# Altium schematic symbol library jlcpcb_capacitors_basic.schlib: 134 symbols (part 2 of 3)
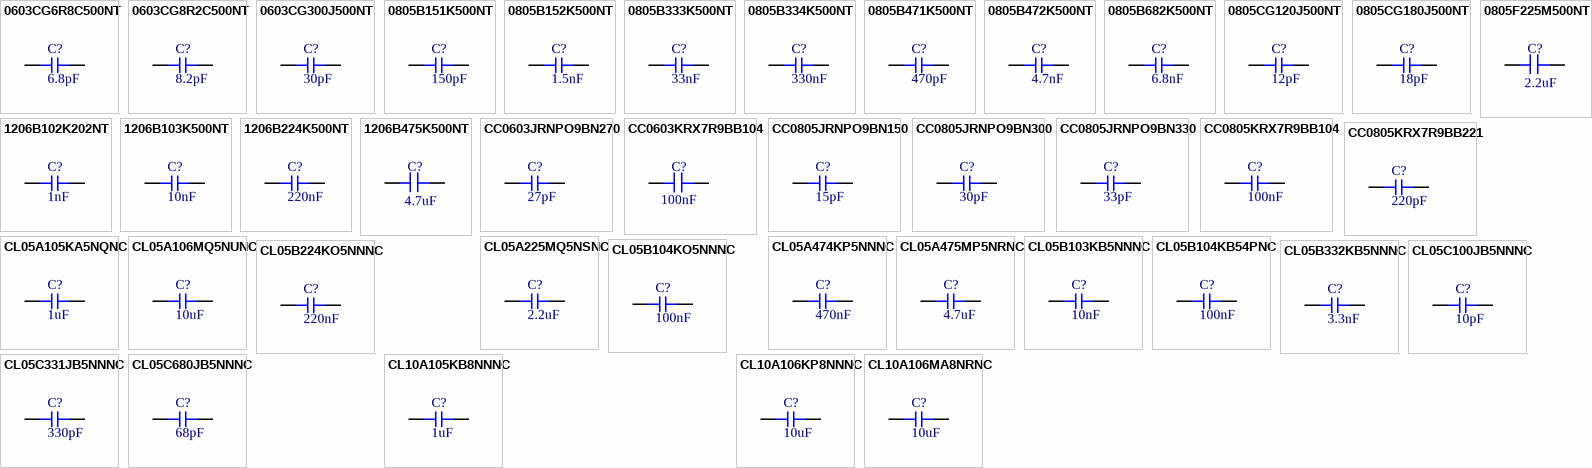
[diagram p4: symbols 0603CG6R8C500NT to CL10A106MA8NRNC]

## 0805B472K500NT
designator C?  Capacitance: 4.7nF  (hidden comment: *)
Capacitor, Ceramic (MLCC), 4.7nF, ±10%, 50V, X7R, ±10%, SMD 0805; Manufacturer: FH(Guangdong Fenghua Advanced Tech); Manufacturer Part Number: 0805B472K500NT; Package Size: 0805; JLCPCB Basic Part: Yes; JLCPCB Part Number: C1744; Supplier 1: LCSC; Category: Capacitors - MLCC; Supplier Part Number 1: C1744; Tolerance: ±10%; Voltage Rating: 50V; Temperature Coefficient: X7R; RoHS: Yes; ComponentLink1Description: Datasheet; ComponentLink1URL: https://datasheet.lcsc.com/lcsc/1811061719_FH--Guangdong-Fenghua-Advanced-Tech-0805B472K500NT_C1744.pdf; ComponentLink2Description: JLCPCB Part URL; ComponentLink2URL: https://jlcpcb.com/partdetail/C1744; ComponentLink3Description: LCSC Part URL; ComponentLink3URL: https://lcsc.com/product-detail/Multilayer-Ceramic-Capacitors-MLCC---SMD-SMT_FH-Guangdong-Fenghua-Advanced-Tech-FH-Guangdong-Fenghua-Advanced-Tech-0805B472K500NT_C1744.html
footprint CAP-0805 (0805 (2012M) Capacitor)
pins: 1, 2

## 0805B682K500NT
designator C?  Capacitance: 6.8nF  (hidden comment: *)
Capacitor, Ceramic (MLCC), 6.8nF, ±10%, 50V, X7R, ±10%, SMD 0805; Manufacturer: FH(Guangdong Fenghua Advanced Tech); Manufacturer Part Number: 0805B682K500NT; Package Size: 0805; JLCPCB Basic Part: Yes; JLCPCB Part Number: C1755; Supplier 1: LCSC; Category: Capacitors - MLCC; Supplier Part Number 1: C1755; Tolerance: ±10%; Voltage Rating: 50V; Temperature Coefficient: X7R; RoHS: Yes; ComponentLink1Description: Datasheet; ComponentLink1URL: https://datasheet.lcsc.com/lcsc/1811061724_FH--Guangdong-Fenghua-Advanced-Tech-0805B682K500NT_C1755.pdf; ComponentLink2Description: JLCPCB Part URL; ComponentLink2URL: https://jlcpcb.com/partdetail/C1755; ComponentLink3Description: LCSC Part URL; ComponentLink3URL: https://lcsc.com/product-detail/Multilayer-Ceramic-Capacitors-MLCC---SMD-SMT_FH-Guangdong-Fenghua-Advanced-Tech-FH-Guangdong-Fenghua-Advanced-Tech-0805B682K500NT_C1755.html
footprint CAP-0805 (0805 (2012M) Capacitor)
pins: 1, 2

## 0805CG120J500NT
designator C?  Capacitance: 12pF  (hidden comment: *)
Capacitor, Ceramic (MLCC), 12pF, ±5%, 50V, C0G, ±5%, SMD 0805; Manufacturer: FH(Guangdong Fenghua Advanced Tech); Manufacturer Part Number: 0805CG120J500NT; Package Size: 0805; JLCPCB Basic Part: Yes; JLCPCB Part Number: C1792; Supplier 1: LCSC; Category: Capacitors - MLCC; Supplier Part Number 1: C1792; Tolerance: ±5%; Voltage Rating: 50V; Temperature Coefficient: C0G; RoHS: Yes; ComponentLink1Description: Datasheet; ComponentLink1URL: https://datasheet.lcsc.com/lcsc/1811061723_FH--Guangdong-Fenghua-Advanced-Tech-0805CG120J500NT_C1792.pdf; ComponentLink2Description: JLCPCB Part URL; ComponentLink2URL: https://jlcpcb.com/partdetail/C1792; ComponentLink3Description: LCSC Part URL; ComponentLink3URL: https://lcsc.com/product-detail/Multilayer-Ceramic-Capacitors-MLCC---SMD-SMT_FH-Guangdong-Fenghua-Advanced-Tech-FH-Guangdong-Fenghua-Advanced-Tech-0805CG120J500NT_C1792.html
footprint CAP-0805 (0805 (2012M) Capacitor)
pins: 1, 2

## 0805CG180J500NT
designator C?  Capacitance: 18pF  (hidden comment: *)
Capacitor, Ceramic (MLCC), 18pF, ±5%, 50V, C0G, ±5%, SMD 0805; Manufacturer: FH(Guangdong Fenghua Advanced Tech); Manufacturer Part Number: 0805CG180J500NT; Package Size: 0805; JLCPCB Basic Part: Yes; JLCPCB Part Number: C1797; Supplier 1: LCSC; Category: Capacitors - MLCC; Supplier Part Number 1: C1797; Tolerance: ±5%; Voltage Rating: 50V; Temperature Coefficient: C0G; RoHS: Yes; ComponentLink1Description: Datasheet; ComponentLink1URL: https://datasheet.lcsc.com/lcsc/1811091217_FH--Guangdong-Fenghua-Advanced-Tech-0805CG180J500NT_C1797.pdf; ComponentLink2Description: JLCPCB Part URL; ComponentLink2URL: https://jlcpcb.com/partdetail/C1797; ComponentLink3Description: LCSC Part URL; ComponentLink3URL: https://lcsc.com/product-detail/Multilayer-Ceramic-Capacitors-MLCC---SMD-SMT_FH-Guangdong-Fenghua-Advanced-Tech-FH-Guangdong-Fenghua-Advanced-Tech-0805CG180J500NT_C1797.html
footprint CAP-0805 (0805 (2012M) Capacitor)
pins: 1, 2

## 0805F225M500NT
designator C?  Capacitance: 2.2uF  (hidden comment: *)
Capacitor, Ceramic (MLCC), 2.2uF, ±20%, 50V, Y5V, ±20%, SMD 0805; Manufacturer: FH(Guangdong Fenghua Advanced Tech); Manufacturer Part Number: 0805F225M500NT; Package Size: 0805; JLCPCB Basic Part: Yes; JLCPCB Part Number: C49217; Supplier 1: LCSC; Category: Capacitors - MLCC; Supplier Part Number 1: C49217; Tolerance: ±20%; Voltage Rating: 50V; Temperature Coefficient: Y5V; RoHS: Yes; ComponentLink1Description: Datasheet; ComponentLink1URL: https://datasheet.lcsc.com/lcsc/1811101411_FH--Guangdong-Fenghua-Advanced-Tech-0805F225M500NT_C49217.pdf; ComponentLink2Description: JLCPCB Part URL; ComponentLink2URL: https://jlcpcb.com/partdetail/C49217; ComponentLink3Description: LCSC Part URL; ComponentLink3URL: https://lcsc.com/product-detail/Multilayer-Ceramic-Capacitors-MLCC---SMD-SMT_FH-Guangdong-Fenghua-Advanced-Tech-FH-Guangdong-Fenghua-Advanced-Tech-0805F225M500NT_C49217.html
footprint C0805
pins: 1, 2

## 1206B102K202NT
designator C?  Capacitance: 1nF  (hidden comment: *)
Capacitor, Ceramic (MLCC), 1nF, ±10%, 2kV, X7R, ±10%, SMD 1206; Manufacturer: FH(Guangdong Fenghua Advanced Tech); Manufacturer Part Number: 1206B102K202NT; Package Size: 1206; JLCPCB Basic Part: Yes; JLCPCB Part Number: C9196; Supplier 1: LCSC; Category: Capacitors - MLCC; Supplier Part Number 1: C9196; Tolerance: ±10%; Voltage Rating: 2kV; Temperature Coefficient: X7R; RoHS: Yes; ComponentLink1Description: Datasheet; ComponentLink1URL: https://datasheet.lcsc.com/lcsc/1810311314_FH--Guangdong-Fenghua-Advanced-Tech-1206B102K202NT_C9196.pdf; ComponentLink2Description: JLCPCB Part URL; ComponentLink2URL: https://jlcpcb.com/partdetail/C9196; ComponentLink3Description: LCSC Part URL; ComponentLink3URL: https://lcsc.com/product-detail/Multilayer-Ceramic-Capacitors-MLCC---SMD-SMT_FH-Guangdong-Fenghua-Advanced-Tech-FH-Guangdong-Fenghua-Advanced-Tech-1206B102K202NT_C9196.html
footprint CAP-1206 (1206 (3216M) Capacitor)
pins: 1, 2

## 1206B103K500NT
designator C?  Capacitance: 10nF  (hidden comment: *)
Capacitor, Ceramic (MLCC), 10nF, ±10%, 50V, X7R, ±10%, SMD 1206; Manufacturer: FH(Guangdong Fenghua Advanced Tech); Manufacturer Part Number: 1206B103K500NT; Package Size: 1206; JLCPCB Basic Part: Yes; JLCPCB Part Number: C1846; Supplier 1: LCSC; Category: Capacitors - MLCC; Supplier Part Number 1: C1846; Tolerance: ±10%; Voltage Rating: 50V; Temperature Coefficient: X7R; RoHS: Yes; ComponentLink1Description: Datasheet; ComponentLink1URL: https://datasheet.lcsc.com/lcsc/1811051111_FH--Guangdong-Fenghua-Advanced-Tech-1206B103K500NT_C1846.pdf; ComponentLink2Description: JLCPCB Part URL; ComponentLink2URL: https://jlcpcb.com/partdetail/C1846; ComponentLink3Description: LCSC Part URL; ComponentLink3URL: https://lcsc.com/product-detail/Multilayer-Ceramic-Capacitors-MLCC---SMD-SMT_FH-Guangdong-Fenghua-Advanced-Tech-FH-Guangdong-Fenghua-Advanced-Tech-1206B103K500NT_C1846.html
footprint CAP-1206 (1206 (3216M) Capacitor)
pins: 1, 2

## 1206B224K500NT
designator C?  Capacitance: 220nF  (hidden comment: *)
Capacitor, Ceramic (MLCC), 220nF, ±10%, 50V, X7R, ±10%, SMD 1206; Manufacturer: FH(Guangdong Fenghua Advanced Tech); Manufacturer Part Number: 1206B224K500NT; Package Size: 1206; JLCPCB Basic Part: Yes; JLCPCB Part Number: C1857; Supplier 1: LCSC; Category: Capacitors - MLCC; Supplier Part Number 1: C1857; Tolerance: ±10%; Voltage Rating: 50V; Temperature Coefficient: X7R; RoHS: Yes; ComponentLink1Description: Datasheet; ComponentLink1URL: https://datasheet.lcsc.com/lcsc/1810311313_FH--Guangdong-Fenghua-Advanced-Tech-1206B224K500NT_C1857.pdf; ComponentLink2Description: JLCPCB Part URL; ComponentLink2URL: https://jlcpcb.com/partdetail/C1857; ComponentLink3Description: LCSC Part URL; ComponentLink3URL: https://lcsc.com/product-detail/Multilayer-Ceramic-Capacitors-MLCC---SMD-SMT_FH-Guangdong-Fenghua-Advanced-Tech-FH-Guangdong-Fenghua-Advanced-Tech-1206B224K500NT_C1857.html
footprint CAP-1206 (1206 (3216M) Capacitor)
pins: 1, 2

## 1206B475K500NT
designator C?  Capacitance: 4.7uF  (hidden comment: *)
Capacitor, Ceramic (MLCC), 4.7uF, ±10%, 50V, X7R, ±10%, SMD 1206; Manufacturer: FH(Guangdong Fenghua Advanced Tech); Manufacturer Part Number: 1206B475K500NT; Package Size: 1206; JLCPCB Basic Part: Yes; JLCPCB Part Number: C29823; Supplier 1: LCSC; Category: Capacitors - MLCC; Supplier Part Number 1: C29823; Tolerance: ±10%; Voltage Rating: 50V; Temperature Coefficient: X7R; RoHS: Yes; ComponentLink1Description: Datasheet; ComponentLink1URL: https://datasheet.lcsc.com/lcsc/1811091112_FH--Guangdong-Fenghua-Advanced-Tech-1206B475K500NT_C29823.pdf; ComponentLink2Description: JLCPCB Part URL; ComponentLink2URL: https://jlcpcb.com/partdetail/C29823; ComponentLink3Description: LCSC Part URL; ComponentLink3URL: https://lcsc.com/product-detail/Multilayer-Ceramic-Capacitors-MLCC---SMD-SMT_FH-Guangdong-Fenghua-Advanced-Tech-FH-Guangdong-Fenghua-Advanced-Tech-1206B475K500NT_C29823.html
footprint C1206
pins: 1, 2

## CC0603JRNPO9BN270
designator C?  Capacitance: 27pF  (hidden comment: *)
Capacitor, Ceramic (MLCC), 27pF, ±5%, 50V, NP0, ±5%, SMD 0603; Manufacturer: YAGEO; Manufacturer Part Number: CC0603JRNPO9BN270; Package Size: 0603; JLCPCB Basic Part: Yes; JLCPCB Part Number: C107045; Supplier 1: LCSC; Category: Capacitors - MLCC; Supplier Part Number 1: C107045; Tolerance: ±5%; Voltage Rating: 50V; Temperature Coefficient: NP0; RoHS: Yes; ComponentLink1Description: Datasheet; ComponentLink1URL: https://datasheet.lcsc.com/lcsc/1811082127_YAGEO-CC0603JRNPO9BN270_C107045.pdf; ComponentLink2Description: JLCPCB Part URL; ComponentLink2URL: https://jlcpcb.com/partdetail/C107045; ComponentLink3Description: LCSC Part URL; ComponentLink3URL: https://lcsc.com/product-detail/Multilayer-Ceramic-Capacitors-MLCC---SMD-SMT_YAGEO-YAGEO-CC0603JRNPO9BN270_C107045.html
footprint CAP-0603 (0603 (1608M) Capacitor)
pins: 1, 2

## CC0603KRX7R9BB104
designator C?  Capacitance: 100nF  (hidden comment: *)
Capacitor, Ceramic (MLCC), 100nF, ±10%, 50V, X7R, ±10%, SMD 0603; Manufacturer: YAGEO; Manufacturer Part Number: CC0603KRX7R9BB104; Package Size: 0603; JLCPCB Basic Part: Yes; JLCPCB Part Number: C14663; Supplier 1: LCSC; Category: Capacitors - MLCC; Supplier Part Number 1: C14663; Tolerance: ±10%; Voltage Rating: 50V; Temperature Coefficient: X7R; RoHS: Yes; ComponentLink1Description: Datasheet; ComponentLink1URL: https://datasheet.lcsc.com/lcsc/1809301912_YAGEO-CC0603KRX7R9BB104_C14663.pdf; ComponentLink2Description: JLCPCB Part URL; ComponentLink2URL: https://jlcpcb.com/partdetail/C14663; ComponentLink3Description: LCSC Part URL; ComponentLink3URL: https://lcsc.com/product-detail/Multilayer-Ceramic-Capacitors-MLCC---SMD-SMT_YAGEO-YAGEO-CC0603KRX7R9BB104_C14663.html
footprint C0603 (Chip Resistor, 2-Leads, Body 1.65x0.95mm, IPC Low Density)
pins: 1, 2

## CC0805JRNPO9BN150
designator C?  Capacitance: 15pF  (hidden comment: *)
Capacitor, Ceramic (MLCC), 15pF, ±5%, 50V, NP0, ±5%, SMD 0805; Manufacturer: YAGEO; Manufacturer Part Number: CC0805JRNPO9BN150; Package Size: 0805; JLCPCB Basic Part: Yes; JLCPCB Part Number: C107110; Supplier 1: LCSC; Category: Capacitors - MLCC; Supplier Part Number 1: C107110; Tolerance: ±5%; Voltage Rating: 50V; Temperature Coefficient: NP0; RoHS: Yes; ComponentLink1Description: Datasheet; ComponentLink1URL: https://datasheet.lcsc.com/lcsc/1810311412_YAGEO-CC0805JRNPO9BN150_C107110.pdf; ComponentLink2Description: JLCPCB Part URL; ComponentLink2URL: https://jlcpcb.com/partdetail/C107110; ComponentLink3Description: LCSC Part URL; ComponentLink3URL: https://lcsc.com/product-detail/Multilayer-Ceramic-Capacitors-MLCC---SMD-SMT_YAGEO-YAGEO-CC0805JRNPO9BN150_C107110.html
footprint CAP-0805 (0805 (2012M) Capacitor)
pins: 1, 2

## CC0805JRNPO9BN300
designator C?  Capacitance: 30pF  (hidden comment: *)
Capacitor, Ceramic (MLCC), 30pF, ±5%, 50V, NP0, ±5%, SMD 0805; Manufacturer: YAGEO; Manufacturer Part Number: CC0805JRNPO9BN300; Package Size: 0805; JLCPCB Basic Part: Yes; JLCPCB Part Number: C107114; Supplier 1: LCSC; Category: Capacitors - MLCC; Supplier Part Number 1: C107114; Tolerance: ±5%; Voltage Rating: 50V; Temperature Coefficient: NP0; RoHS: Yes; ComponentLink1Description: Datasheet; ComponentLink1URL: https://datasheet.lcsc.com/lcsc/1810311413_YAGEO-CC0805JRNPO9BN300_C107114.pdf; ComponentLink2Description: JLCPCB Part URL; ComponentLink2URL: https://jlcpcb.com/partdetail/C107114; ComponentLink3Description: LCSC Part URL; ComponentLink3URL: https://lcsc.com/product-detail/Multilayer-Ceramic-Capacitors-MLCC---SMD-SMT_YAGEO-YAGEO-CC0805JRNPO9BN300_C107114.html
footprint CAP-0805 (0805 (2012M) Capacitor)
pins: 1, 2

## CC0805JRNPO9BN330
designator C?  Capacitance: 33pF  (hidden comment: *)
Capacitor, Ceramic (MLCC), 33pF, ±5%, 50V, NP0, ±5%, SMD 0805; Manufacturer: YAGEO; Manufacturer Part Number: CC0805JRNPO9BN330; Package Size: 0805; JLCPCB Basic Part: Yes; JLCPCB Part Number: C107115; Supplier 1: LCSC; Category: Capacitors - MLCC; Supplier Part Number 1: C107115; Tolerance: ±5%; Voltage Rating: 50V; Temperature Coefficient: NP0; RoHS: Yes; ComponentLink1Description: Datasheet; ComponentLink1URL: https://datasheet.lcsc.com/lcsc/1810311413_YAGEO-CC0805JRNPO9BN330_C107115.pdf; ComponentLink2Description: JLCPCB Part URL; ComponentLink2URL: https://jlcpcb.com/partdetail/C107115; ComponentLink3Description: LCSC Part URL; ComponentLink3URL: https://lcsc.com/product-detail/Multilayer-Ceramic-Capacitors-MLCC---SMD-SMT_YAGEO-YAGEO-CC0805JRNPO9BN330_C107115.html
footprint CAP-0805 (0805 (2012M) Capacitor)
pins: 1, 2

## CC0805KRX7R9BB104
designator C?  Capacitance: 100nF  (hidden comment: *)
Capacitor, Ceramic (MLCC), 100nF, ±10%, 50V, X7R, ±10%, SMD 0805; Manufacturer: YAGEO; Manufacturer Part Number: CC0805KRX7R9BB104; Package Size: 0805; JLCPCB Basic Part: Yes; JLCPCB Part Number: C49678; Supplier 1: LCSC; Category: Capacitors - MLCC; Supplier Part Number 1: C49678; Tolerance: ±10%; Voltage Rating: 50V; Temperature Coefficient: X7R; RoHS: Yes; ComponentLink1Description: Datasheet; ComponentLink1URL: https://datasheet.lcsc.com/lcsc/1810101813_YAGEO-CC0805KRX7R9BB104_C49678.pdf; ComponentLink2Description: JLCPCB Part URL; ComponentLink2URL: https://jlcpcb.com/partdetail/C49678; ComponentLink3Description: LCSC Part URL; ComponentLink3URL: https://lcsc.com/product-detail/Multilayer-Ceramic-Capacitors-MLCC---SMD-SMT_YAGEO-YAGEO-CC0805KRX7R9BB104_C49678.html
footprint CAP-0805 (0805 (2012M) Capacitor)
pins: 1, 2

## CC0805KRX7R9BB221
designator C?  Capacitance: 220pF  (hidden comment: *)
Capacitor, Ceramic (MLCC), 220pF, ±10%, 50V, X7R, ±10%, SMD 0805; Manufacturer: YAGEO; Manufacturer Part Number: CC0805KRX7R9BB221; Package Size: 0805; JLCPCB Basic Part: Yes; JLCPCB Part Number: C107145; Supplier 1: LCSC; Category: Capacitors - MLCC; Supplier Part Number 1: C107145; Tolerance: ±10%; Voltage Rating: 50V; Temperature Coefficient: X7R; RoHS: Yes; ComponentLink1Description: Datasheet; ComponentLink1URL: https://datasheet.lcsc.com/lcsc/1809281326_YAGEO-CC0805KRX7R9BB221_C107145.pdf; ComponentLink2Description: JLCPCB Part URL; ComponentLink2URL: https://jlcpcb.com/partdetail/C107145; ComponentLink3Description: LCSC Part URL; ComponentLink3URL: https://lcsc.com/product-detail/Multilayer-Ceramic-Capacitors-MLCC---SMD-SMT_YAGEO-YAGEO-CC0805KRX7R9BB221_C107145.html
footprint CAP-0805 (0805 (2012M) Capacitor)
pins: 1, 2

## CL05A105KA5NQNC
designator C?  Capacitance: 1uF  (hidden comment: *)
Capacitor, Ceramic (MLCC), 1uF, ±10%, 25V, X5R, ±10%, SMD 0402; Manufacturer: Samsung Electro-Mechanics; Manufacturer Part Number: CL05A105KA5NQNC; Package Size: 0402; JLCPCB Basic Part: Yes; JLCPCB Part Number: C52923; Supplier 1: LCSC; Category: Capacitors - MLCC; Supplier Part Number 1: C52923; Tolerance: ±10%; Voltage Rating: 25V; Temperature Coefficient: X5R; RoHS: Yes; ComponentLink1Description: Datasheet; ComponentLink1URL: https://datasheet.lcsc.com/lcsc/1811091611_Samsung-Electro-Mechanics-CL05A105KA5NQNC_C52923.pdf; ComponentLink2Description: JLCPCB Part URL; ComponentLink2URL: https://jlcpcb.com/partdetail/C52923; ComponentLink3Description: LCSC Part URL; ComponentLink3URL: https://lcsc.com/product-detail/Multilayer-Ceramic-Capacitors-MLCC---SMD-SMT_Samsung-Electro-Mechanics-Samsung-Electro-Mechanics-CL05A105KA5NQNC_C52923.html
footprint CAP-0402 (0402 (1005M) Capacitor)
pins: 1, 2

## CL05A106MQ5NUNC
designator C?  Capacitance: 10uF  (hidden comment: *)
Capacitor, Ceramic (MLCC), 10uF, ±20%, 6.3V, X5R, ±20%, SMD 0402; Manufacturer: Samsung Electro-Mechanics; Manufacturer Part Number: CL05A106MQ5NUNC; Package Size: 0402; JLCPCB Basic Part: Yes; JLCPCB Part Number: C15525; Supplier 1: LCSC; Category: Capacitors - MLCC; Supplier Part Number 1: C15525; Tolerance: ±20%; Voltage Rating: 6.3V; Temperature Coefficient: X5R; RoHS: Yes; ComponentLink1Description: Datasheet; ComponentLink1URL: https://datasheet.lcsc.com/lcsc/2208231630_Samsung-Electro-Mechanics-CL05A106MQ5NUNC_C15525.pdf; ComponentLink2Description: JLCPCB Part URL; ComponentLink2URL: https://jlcpcb.com/partdetail/C15525; ComponentLink3Description: LCSC Part URL; ComponentLink3URL: https://lcsc.com/product-detail/Multilayer-Ceramic-Capacitors-MLCC---SMD-SMT_Samsung-Electro-Mechanics-Samsung-Electro-Mechanics-CL05A106MQ5NUNC_C15525.html
footprint CAP-0402 (0402 (1005M) Capacitor)
pins: 1, 2

## CL05A225MQ5NSNC
designator C?  Capacitance: 2.2uF  (hidden comment: *)
Capacitor, Ceramic (MLCC), 2.2uF, ±20%, 6.3V, X5R, ±20%, SMD 0402; Manufacturer: Samsung Electro-Mechanics; Manufacturer Part Number: CL05A225MQ5NSNC; Package Size: 0402; JLCPCB Basic Part: Yes; JLCPCB Part Number: C12530; Supplier 1: LCSC; Category: Capacitors - MLCC; Supplier Part Number 1: C12530; Tolerance: ±20%; Voltage Rating: 6.3V; Temperature Coefficient: X5R; RoHS: Yes; ComponentLink1Description: Datasheet; ComponentLink1URL: https://datasheet.lcsc.com/lcsc/1811021410_Samsung-Electro-Mechanics-CL05A225MQ5NSNC_C12530.pdf; ComponentLink2Description: JLCPCB Part URL; ComponentLink2URL: https://jlcpcb.com/partdetail/C12530; ComponentLink3Description: LCSC Part URL; ComponentLink3URL: https://lcsc.com/product-detail/Multilayer-Ceramic-Capacitors-MLCC---SMD-SMT_Samsung-Electro-Mechanics-Samsung-Electro-Mechanics-CL05A225MQ5NSNC_C12530.html
footprint CAP-0402 (0402 (1005M) Capacitor)
pins: 1, 2

## CL05A474KP5NNNC
designator C?  Capacitance: 470nF  (hidden comment: *)
Capacitor, Ceramic (MLCC), 470nF, ±10%, 10V, X5R, ±10%, SMD 0402; Manufacturer: Samsung Electro-Mechanics; Manufacturer Part Number: CL05A474KP5NNNC; Package Size: 0402; JLCPCB Basic Part: Yes; JLCPCB Part Number: C47339; Supplier 1: LCSC; Category: Capacitors - MLCC; Supplier Part Number 1: C47339; Tolerance: ±10%; Voltage Rating: 10V; Temperature Coefficient: X5R; RoHS: Yes; ComponentLink1Description: Datasheet; ComponentLink1URL: https://datasheet.lcsc.com/lcsc/1810191214_Samsung-Electro-Mechanics-CL05A474KP5NNNC-_C47339.pdf; ComponentLink2Description: JLCPCB Part URL; ComponentLink2URL: https://jlcpcb.com/partdetail/C47339; ComponentLink3Description: LCSC Part URL; ComponentLink3URL: https://lcsc.com/product-detail/Multilayer-Ceramic-Capacitors-MLCC---SMD-SMT_Samsung-Electro-Mechanics-Samsung-Electro-Mechanics-CL05A474KP5NNNC-_C47339.html
footprint CAP-0402 (0402 (1005M) Capacitor)
pins: 1, 2

## CL05A475MP5NRNC
designator C?  Capacitance: 4.7uF  (hidden comment: *)
Capacitor, Ceramic (MLCC), 4.7uF, ±20%, 10V, X5R, ±20%, SMD 0402; Manufacturer: Samsung Electro-Mechanics; Manufacturer Part Number: CL05A475MP5NRNC; Package Size: 0402; JLCPCB Basic Part: Yes; JLCPCB Part Number: C23733; Supplier 1: LCSC; Category: Capacitors - MLCC; Supplier Part Number 1: C23733; Tolerance: ±20%; Voltage Rating: 10V; Temperature Coefficient: X5R; RoHS: Yes; ComponentLink1Description: Datasheet; ComponentLink1URL: https://datasheet.lcsc.com/lcsc/1810191211_Samsung-Electro-Mechanics-CL05A475MP5NRNC_C23733.pdf; ComponentLink2Description: JLCPCB Part URL; ComponentLink2URL: https://jlcpcb.com/partdetail/C23733; ComponentLink3Description: LCSC Part URL; ComponentLink3URL: https://lcsc.com/product-detail/Multilayer-Ceramic-Capacitors-MLCC---SMD-SMT_Samsung-Electro-Mechanics-Samsung-Electro-Mechanics-CL05A475MP5NRNC_C23733.html
footprint CAP-0402 (0402 (1005M) Capacitor)
pins: 1, 2

## CL05B103KB5NNNC
designator C?  Capacitance: 10nF  (hidden comment: *)
Capacitor, Ceramic (MLCC), 10nF, ±10%, 50V, X7R, ±10%, SMD 0402; Manufacturer: Samsung Electro-Mechanics; Manufacturer Part Number: CL05B103KB5NNNC; Package Size: 0402; JLCPCB Basic Part: Yes; JLCPCB Part Number: C15195; Supplier 1: LCSC; Category: Capacitors - MLCC; Supplier Part Number 1: C15195; Tolerance: ±10%; Voltage Rating: 50V; Temperature Coefficient: X7R; RoHS: Yes; ComponentLink1Description: Datasheet; ComponentLink1URL: https://datasheet.lcsc.com/lcsc/1810191223_Samsung-Electro-Mechanics-CL05B103KB5NNNC_C15195.pdf; ComponentLink2Description: JLCPCB Part URL; ComponentLink2URL: https://jlcpcb.com/partdetail/C15195; ComponentLink3Description: LCSC Part URL; ComponentLink3URL: https://lcsc.com/product-detail/Multilayer-Ceramic-Capacitors-MLCC---SMD-SMT_Samsung-Electro-Mechanics-Samsung-Electro-Mechanics-CL05B103KB5NNNC_C15195.html
footprint CAP-0402 (0402 (1005M) Capacitor)
pins: 1, 2

## CL05B104KB54PNC
designator C?  Capacitance: 100nF  (hidden comment: *)
Capacitor, Ceramic (MLCC), 100nF, ±10%, 50V, X7R, ±10%, SMD 0402; Manufacturer: Samsung Electro-Mechanics; Manufacturer Part Number: CL05B104KB54PNC; Package Size: 0402; JLCPCB Basic Part: Yes; JLCPCB Part Number: C307331; Supplier 1: LCSC; Category: Capacitors - MLCC; Supplier Part Number 1: C307331; Tolerance: ±10%; Voltage Rating: 50V; Temperature Coefficient: X7R; RoHS: Yes; ComponentLink1Description: Datasheet; ComponentLink1URL: https://datasheet.lcsc.com/lcsc/1810191222_Samsung-Electro-Mechanics-CL05B104KB54PNC_C307331.pdf; ComponentLink2Description: JLCPCB Part URL; ComponentLink2URL: https://jlcpcb.com/partdetail/C307331; ComponentLink3Description: LCSC Part URL; ComponentLink3URL: https://lcsc.com/product-detail/Multilayer-Ceramic-Capacitors-MLCC---SMD-SMT_Samsung-Electro-Mechanics-Samsung-Electro-Mechanics-CL05B104KB54PNC_C307331.html
footprint CAP-0402 (0402 (1005M) Capacitor)
pins: 1, 2

## CL05B104KO5NNNC
designator C?  Capacitance: 100nF  (hidden comment: *)
Capacitor, Ceramic (MLCC), 100nF, ±10%, 16V, X7R, ±10%, SMD 0402; Manufacturer: Samsung Electro-Mechanics; Manufacturer Part Number: CL05B104KO5NNNC; Package Size: 0402; JLCPCB Basic Part: Yes; JLCPCB Part Number: C1525; Supplier 1: LCSC; Category: Capacitors - MLCC; Supplier Part Number 1: C1525; Tolerance: ±10%; Voltage Rating: 16V; Temperature Coefficient: X7R; RoHS: Yes; ComponentLink1Description: Datasheet; ComponentLink1URL: https://datasheet.lcsc.com/lcsc/1810191219_Samsung-Electro-Mechanics-CL05B104KO5NNNC_C1525.pdf; ComponentLink2Description: JLCPCB Part URL; ComponentLink2URL: https://jlcpcb.com/partdetail/C1525; ComponentLink3Description: LCSC Part URL; ComponentLink3URL: https://lcsc.com/product-detail/Multilayer-Ceramic-Capacitors-MLCC---SMD-SMT_Samsung-Electro-Mechanics-Samsung-Electro-Mechanics-CL05B104KO5NNNC_C1525.html
footprint CAP-0402 (0402 (1005M) Capacitor)
pins: 1, 2

## CL05B224KO5NNNC
designator C?  Capacitance: 220nF  (hidden comment: *)
Capacitor, Ceramic (MLCC), 220nF, ±10%, 16V, X7R, ±10%, SMD 0402; Manufacturer: Samsung Electro-Mechanics; Manufacturer Part Number: CL05B224KO5NNNC; Package Size: 0402; JLCPCB Basic Part: Yes; JLCPCB Part Number: C16772; Supplier 1: LCSC; Category: Capacitors - MLCC; Supplier Part Number 1: C16772; Tolerance: ±10%; Voltage Rating: 16V; Temperature Coefficient: X7R; RoHS: Yes; ComponentLink1Description: Datasheet; ComponentLink1URL: https://datasheet.lcsc.com/lcsc/1810251021_Samsung-Electro-Mechanics-CL05B224KO5NNNC-_C16772.pdf; ComponentLink2Description: JLCPCB Part URL; ComponentLink2URL: https://jlcpcb.com/partdetail/C16772; ComponentLink3Description: LCSC Part URL; ComponentLink3URL: https://lcsc.com/product-detail/Multilayer-Ceramic-Capacitors-MLCC---SMD-SMT_Samsung-Electro-Mechanics-Samsung-Electro-Mechanics-CL05B224KO5NNNC-_C16772.html
footprint CAP-0402 (0402 (1005M) Capacitor)
pins: 1, 2

## CL05B332KB5NNNC
designator C?  Capacitance: 3.3nF  (hidden comment: *)
Capacitor, Ceramic (MLCC), 3.3nF, ±10%, 50V, X7R, ±10%, SMD 0402; Manufacturer: Samsung Electro-Mechanics; Manufacturer Part Number: CL05B332KB5NNNC; Package Size: 0402; JLCPCB Basic Part: Yes; JLCPCB Part Number: C26404; Supplier 1: LCSC; Category: Capacitors - MLCC; Supplier Part Number 1: C26404; Tolerance: ±10%; Voltage Rating: 50V; Temperature Coefficient: X7R; RoHS: Yes; ComponentLink1Description: Datasheet; ComponentLink1URL: https://datasheet.lcsc.com/lcsc/1810191211_Samsung-Electro-Mechanics-CL05B332KB5NNNC_C26404.pdf; ComponentLink2Description: JLCPCB Part URL; ComponentLink2URL: https://jlcpcb.com/partdetail/C26404; ComponentLink3Description: LCSC Part URL; ComponentLink3URL: https://lcsc.com/product-detail/Multilayer-Ceramic-Capacitors-MLCC---SMD-SMT_Samsung-Electro-Mechanics-Samsung-Electro-Mechanics-CL05B332KB5NNNC_C26404.html
footprint CAP-0402 (0402 (1005M) Capacitor)
pins: 1, 2

## CL05C100JB5NNNC
designator C?  Capacitance: 10pF  (hidden comment: *)
Capacitor, Ceramic (MLCC), 10pF, ±5%, 50V, C0G, ±5%, SMD 0402; Manufacturer: Samsung Electro-Mechanics; Manufacturer Part Number: CL05C100JB5NNNC; Package Size: 0402; JLCPCB Basic Part: Yes; JLCPCB Part Number: C32949; Supplier 1: LCSC; Category: Capacitors - MLCC; Supplier Part Number 1: C32949; Tolerance: ±5%; Voltage Rating: 50V; Temperature Coefficient: C0G; RoHS: Yes; ComponentLink1Description: Datasheet; ComponentLink1URL: https://datasheet.lcsc.com/lcsc/1810191220_Samsung-Electro-Mechanics-CL05C100JB5NNNC_C32949.pdf; ComponentLink2Description: JLCPCB Part URL; ComponentLink2URL: https://jlcpcb.com/partdetail/C32949; ComponentLink3Description: LCSC Part URL; ComponentLink3URL: https://lcsc.com/product-detail/Multilayer-Ceramic-Capacitors-MLCC---SMD-SMT_Samsung-Electro-Mechanics-Samsung-Electro-Mechanics-CL05C100JB5NNNC_C32949.html
footprint CAP-0402 (0402 (1005M) Capacitor)
pins: 1, 2

## CL05C331JB5NNNC
designator C?  Capacitance: 330pF  (hidden comment: *)
Capacitor, Ceramic (MLCC), 330pF, ±5%, 50V, C0G, ±5%, SMD 0402; Manufacturer: Samsung Electro-Mechanics; Manufacturer Part Number: CL05C331JB5NNNC; Package Size: 0402; JLCPCB Basic Part: Yes; JLCPCB Part Number: C13533; Supplier 1: LCSC; Category: Capacitors - MLCC; Supplier Part Number 1: C13533; Tolerance: ±5%; Voltage Rating: 50V; Temperature Coefficient: C0G; RoHS: Yes; ComponentLink1Description: Datasheet; ComponentLink1URL: https://datasheet.lcsc.com/lcsc/1810192025_Samsung-Electro-Mechanics-CL05C331JB5NNNC_C13533.pdf; ComponentLink2Description: JLCPCB Part URL; ComponentLink2URL: https://jlcpcb.com/partdetail/C13533; ComponentLink3Description: LCSC Part URL; ComponentLink3URL: https://lcsc.com/product-detail/Multilayer-Ceramic-Capacitors-MLCC---SMD-SMT_Samsung-Electro-Mechanics-Samsung-Electro-Mechanics-CL05C331JB5NNNC_C13533.html
footprint CAP-0402 (0402 (1005M) Capacitor)
pins: 1, 2

## CL05C680JB5NNNC
designator C?  Capacitance: 68pF  (hidden comment: *)
Capacitor, Ceramic (MLCC), 68pF, ±5%, 50V, C0G, ±5%, SMD 0402; Manufacturer: Samsung Electro-Mechanics; Manufacturer Part Number: CL05C680JB5NNNC; Package Size: 0402; JLCPCB Basic Part: Yes; JLCPCB Part Number: C14441; Supplier 1: LCSC; Category: Capacitors - MLCC; Supplier Part Number 1: C14441; Tolerance: ±5%; Voltage Rating: 50V; Temperature Coefficient: C0G; RoHS: Yes; ComponentLink1Description: Datasheet; ComponentLink1URL: https://datasheet.lcsc.com/lcsc/1810191215_Samsung-Electro-Mechanics-CL05C680JB5NNNC_C14441.pdf; ComponentLink2Description: JLCPCB Part URL; ComponentLink2URL: https://jlcpcb.com/partdetail/C14441; ComponentLink3Description: LCSC Part URL; ComponentLink3URL: https://lcsc.com/product-detail/Multilayer-Ceramic-Capacitors-MLCC---SMD-SMT_Samsung-Electro-Mechanics-Samsung-Electro-Mechanics-CL05C680JB5NNNC_C14441.html
footprint CAP-0402 (0402 (1005M) Capacitor)
pins: 1, 2

## CL10A105KB8NNNC
designator C?  Capacitance: 1uF  (hidden comment: *)
Capacitor, Ceramic (MLCC), 1uF, ±10%, 50V, X5R, ±10%, SMD 0603; Manufacturer: Samsung Electro-Mechanics; Manufacturer Part Number: CL10A105KB8NNNC; Package Size: 0603; JLCPCB Basic Part: Yes; JLCPCB Part Number: C15849; Supplier 1: LCSC; Category: Capacitors - MLCC; Supplier Part Number 1: C15849; Tolerance: ±10%; Voltage Rating: 50V; Temperature Coefficient: X5R; RoHS: Yes; ComponentLink1Description: Datasheet; ComponentLink1URL: https://datasheet.lcsc.com/lcsc/1810261812_Samsung-Electro-Mechanics-CL10A105KB8NNNC_C15849.pdf; ComponentLink2Description: JLCPCB Part URL; ComponentLink2URL: https://jlcpcb.com/partdetail/C15849; ComponentLink3Description: LCSC Part URL; ComponentLink3URL: https://lcsc.com/product-detail/Multilayer-Ceramic-Capacitors-MLCC---SMD-SMT_Samsung-Electro-Mechanics-Samsung-Electro-Mechanics-CL10A105KB8NNNC_C15849.html
footprint C0603 (Chip Resistor, 2-Leads, Body 1.65x0.95mm, IPC Low Density)
pins: 1, 2

## CL10A106KP8NNNC
designator C?  Capacitance: 10uF  (hidden comment: *)
Capacitor, Ceramic (MLCC), 10uF, ±10%, 10V, X5R, ±10%, SMD 0603; Manufacturer: Samsung Electro-Mechanics; Manufacturer Part Number: CL10A106KP8NNNC; Package Size: 0603; JLCPCB Basic Part: Yes; JLCPCB Part Number: C19702; Supplier 1: LCSC; Category: Capacitors - MLCC; Supplier Part Number 1: C19702; Tolerance: ±10%; Voltage Rating: 10V; Temperature Coefficient: X5R; RoHS: Yes; ComponentLink1Description: Datasheet; ComponentLink1URL: https://datasheet.lcsc.com/lcsc/1810191219_Samsung-Electro-Mechanics-CL10A106KP8NNNC_C19702.pdf; ComponentLink2Description: JLCPCB Part URL; ComponentLink2URL: https://jlcpcb.com/partdetail/C19702; ComponentLink3Description: LCSC Part URL; ComponentLink3URL: https://lcsc.com/product-detail/Multilayer-Ceramic-Capacitors-MLCC---SMD-SMT_Samsung-Electro-Mechanics-Samsung-Electro-Mechanics-CL10A106KP8NNNC_C19702.html
footprint C0603 (Chip Resistor, 2-Leads, Body 1.65x0.95mm, IPC Low Density)
pins: 1, 2

## CL10A106MA8NRNC
designator C?  Capacitance: 10uF  (hidden comment: *)
Capacitor, Ceramic (MLCC), 10uF, ±20%, 25V, X5R, ±20%, SMD 0603; Manufacturer: Samsung Electro-Mechanics; Manufacturer Part Number: CL10A106MA8NRNC; Package Size: 0603; JLCPCB Basic Part: Yes; JLCPCB Part Number: C96446; Supplier 1: LCSC; Category: Capacitors - MLCC; Supplier Part Number 1: C96446; Tolerance: ±20%; Voltage Rating: 25V; Temperature Coefficient: X5R; RoHS: Yes; ComponentLink1Description: Datasheet; ComponentLink1URL: https://datasheet.lcsc.com/lcsc/1811110921_Samsung-Electro-Mechanics-CL10A106MA8NRNC_C96446.pdf; ComponentLink2Description: JLCPCB Part URL; ComponentLink2URL: https://jlcpcb.com/partdetail/C96446; ComponentLink3Description: LCSC Part URL; ComponentLink3URL: https://lcsc.com/product-detail/Multilayer-Ceramic-Capacitors-MLCC---SMD-SMT_Samsung-Electro-Mechanics-Samsung-Electro-Mechanics-CL10A106MA8NRNC_C96446.html
footprint C0603 (Chip Resistor, 2-Leads, Body 1.65x0.95mm, IPC Low Density)
pins: 1, 2

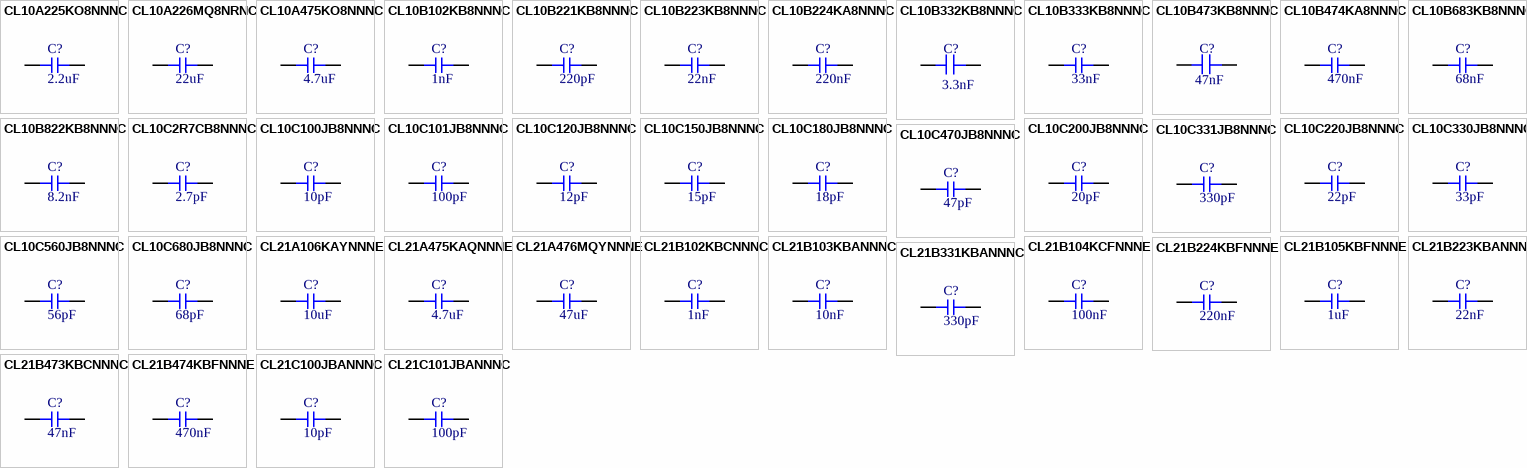
[diagram p2: symbols CL10A225KO8NNNC to CL21C101JBANNNC]

## CL10A225KO8NNNC
designator C?  Capacitance: 2.2uF  (hidden comment: *)
Capacitor, Ceramic (MLCC), 2.2uF, ±10%, 16V, X5R, ±10%, SMD 0603; Manufacturer: Samsung Electro-Mechanics; Manufacturer Part Number: CL10A225KO8NNNC; Package Size: 0603; JLCPCB Basic Part: Yes; JLCPCB Part Number: C23630; Supplier 1: LCSC; Category: Capacitors - MLCC; Supplier Part Number 1: C23630; Tolerance: ±10%; Voltage Rating: 16V; Temperature Coefficient: X5R; RoHS: Yes; ComponentLink1Description: Datasheet; ComponentLink1URL: https://datasheet.lcsc.com/lcsc/1810271109_Samsung-Electro-Mechanics-CL10A225KO8NNNC_C23630.pdf; ComponentLink2Description: JLCPCB Part URL; ComponentLink2URL: https://jlcpcb.com/partdetail/C23630; ComponentLink3Description: LCSC Part URL; ComponentLink3URL: https://lcsc.com/product-detail/Multilayer-Ceramic-Capacitors-MLCC---SMD-SMT_Samsung-Electro-Mechanics-Samsung-Electro-Mechanics-CL10A225KO8NNNC_C23630.html
footprint CAP-0603 (0603 (1608M) Capacitor)
pins: 1, 2

## CL10A226MQ8NRNC
designator C?  Capacitance: 22uF  (hidden comment: *)
Capacitor, Ceramic (MLCC), 22uF, ±20%, 6.3V, X5R, ±20%, SMD 0603; Manufacturer: Samsung Electro-Mechanics; Manufacturer Part Number: CL10A226MQ8NRNC; Package Size: 0603; JLCPCB Basic Part: Yes; JLCPCB Part Number: C59461; Supplier 1: LCSC; Category: Capacitors - MLCC; Supplier Part Number 1: C59461; Tolerance: ±20%; Voltage Rating: 6.3V; Temperature Coefficient: X5R; RoHS: Yes; ComponentLink1Description: Datasheet; ComponentLink1URL: https://datasheet.lcsc.com/lcsc/1811151138_Samsung-Electro-Mechanics-CL10A226MQ8NRNC_C59461.pdf; ComponentLink2Description: JLCPCB Part URL; ComponentLink2URL: https://jlcpcb.com/partdetail/C59461; ComponentLink3Description: LCSC Part URL; ComponentLink3URL: https://lcsc.com/product-detail/Multilayer-Ceramic-Capacitors-MLCC---SMD-SMT_Samsung-Electro-Mechanics-Samsung-Electro-Mechanics-CL10A226MQ8NRNC_C59461.html
footprint CAP-0603 (0603 (1608M) Capacitor)
pins: 1, 2

## CL10A475KO8NNNC
designator C?  Capacitance: 4.7uF  (hidden comment: *)
Capacitor, Ceramic (MLCC), 4.7uF, ±10%, 16V, X5R, ±10%, SMD 0603; Manufacturer: Samsung Electro-Mechanics; Manufacturer Part Number: CL10A475KO8NNNC; Package Size: 0603; JLCPCB Basic Part: Yes; JLCPCB Part Number: C19666; Supplier 1: LCSC; Category: Capacitors - MLCC; Supplier Part Number 1: C19666; Tolerance: ±10%; Voltage Rating: 16V; Temperature Coefficient: X5R; RoHS: Yes; ComponentLink1Description: Datasheet; ComponentLink1URL: https://datasheet.lcsc.com/lcsc/1810261514_Samsung-Electro-Mechanics-CL10A475KO8NNNC_C19666.pdf; ComponentLink2Description: JLCPCB Part URL; ComponentLink2URL: https://jlcpcb.com/partdetail/C19666; ComponentLink3Description: LCSC Part URL; ComponentLink3URL: https://lcsc.com/product-detail/Multilayer-Ceramic-Capacitors-MLCC---SMD-SMT_Samsung-Electro-Mechanics-Samsung-Electro-Mechanics-CL10A475KO8NNNC_C19666.html
footprint CAP-0603 (0603 (1608M) Capacitor)
pins: 1, 2

## CL10B102KB8NNNC
designator C?  Capacitance: 1nF  (hidden comment: *)
Capacitor, Ceramic (MLCC), 1nF, ±10%, 50V, X7R, ±10%, SMD 0603; Manufacturer: Samsung Electro-Mechanics; Manufacturer Part Number: CL10B102KB8NNNC; Package Size: 0603; JLCPCB Basic Part: Yes; JLCPCB Part Number: C1588; Supplier 1: LCSC; Category: Capacitors - MLCC; Supplier Part Number 1: C1588; Tolerance: ±10%; Voltage Rating: 50V; Temperature Coefficient: X7R; RoHS: Yes; ComponentLink1Description: Datasheet; ComponentLink1URL: https://datasheet.lcsc.com/lcsc/1811071810_Samsung-Electro-Mechanics-CL10B102KB8NNNC_C1588.pdf; ComponentLink2Description: JLCPCB Part URL; ComponentLink2URL: https://jlcpcb.com/partdetail/C1588; ComponentLink3Description: LCSC Part URL; ComponentLink3URL: https://lcsc.com/product-detail/Multilayer-Ceramic-Capacitors-MLCC---SMD-SMT_Samsung-Electro-Mechanics-Samsung-Electro-Mechanics-CL10B102KB8NNNC_C1588.html
footprint CAP-0603 (0603 (1608M) Capacitor)
pins: 1, 2

## CL10B221KB8NNNC
designator C?  Capacitance: 220pF  (hidden comment: *)
Capacitor, Ceramic (MLCC), 220pF, ±10%, 50V, X7R, ±10%, SMD 0603; Manufacturer: Samsung Electro-Mechanics; Manufacturer Part Number: CL10B221KB8NNNC; Package Size: 0603; JLCPCB Basic Part: Yes; JLCPCB Part Number: C1603; Supplier 1: LCSC; Category: Capacitors - MLCC; Supplier Part Number 1: C1603; Tolerance: ±10%; Voltage Rating: 50V; Temperature Coefficient: X7R; RoHS: Yes; ComponentLink1Description: Datasheet; ComponentLink1URL: https://datasheet.lcsc.com/lcsc/1810261515_Samsung-Electro-Mechanics-CL10B221KB8NNNC_C1603.pdf; ComponentLink2Description: JLCPCB Part URL; ComponentLink2URL: https://jlcpcb.com/partdetail/C1603; ComponentLink3Description: LCSC Part URL; ComponentLink3URL: https://lcsc.com/product-detail/Multilayer-Ceramic-Capacitors-MLCC---SMD-SMT_Samsung-Electro-Mechanics-Samsung-Electro-Mechanics-CL10B221KB8NNNC_C1603.html
footprint CAP-0603 (0603 (1608M) Capacitor)
pins: 1, 2

## CL10B223KB8NNNC
designator C?  Capacitance: 22nF  (hidden comment: *)
Capacitor, Ceramic (MLCC), 22nF, ±10%, 50V, X7R, ±10%, SMD 0603; Manufacturer: Samsung Electro-Mechanics; Manufacturer Part Number: CL10B223KB8NNNC; Package Size: 0603; JLCPCB Basic Part: Yes; JLCPCB Part Number: C21122; Supplier 1: LCSC; Category: Capacitors - MLCC; Supplier Part Number 1: C21122; Tolerance: ±10%; Voltage Rating: 50V; Temperature Coefficient: X7R; RoHS: Yes; ComponentLink1Description: Datasheet; ComponentLink1URL: https://datasheet.lcsc.com/lcsc/1811101610_Samsung-Electro-Mechanics-CL10B223KB8NNNC_C21122.pdf; ComponentLink2Description: JLCPCB Part URL; ComponentLink2URL: https://jlcpcb.com/partdetail/C21122; ComponentLink3Description: LCSC Part URL; ComponentLink3URL: https://lcsc.com/product-detail/Multilayer-Ceramic-Capacitors-MLCC---SMD-SMT_Samsung-Electro-Mechanics-Samsung-Electro-Mechanics-CL10B223KB8NNNC_C21122.html
footprint CAP-0603 (0603 (1608M) Capacitor)
pins: 1, 2

## CL10B224KA8NNNC
designator C?  Capacitance: 220nF  (hidden comment: *)
Capacitor, Ceramic (MLCC), 220nF, ±10%, 25V, X7R, ±10%, SMD 0603; Manufacturer: Samsung Electro-Mechanics; Manufacturer Part Number: CL10B224KA8NNNC; Package Size: 0603; JLCPCB Basic Part: Yes; JLCPCB Part Number: C21120; Supplier 1: LCSC; Category: Capacitors - MLCC; Supplier Part Number 1: C21120; Tolerance: ±10%; Voltage Rating: 25V; Temperature Coefficient: X7R; RoHS: Yes; ComponentLink1Description: Datasheet; ComponentLink1URL: https://datasheet.lcsc.com/lcsc/1810261513_Samsung-Electro-Mechanics-CL10B224KA8NNNC_C21120.pdf; ComponentLink2Description: JLCPCB Part URL; ComponentLink2URL: https://jlcpcb.com/partdetail/C21120; ComponentLink3Description: LCSC Part URL; ComponentLink3URL: https://lcsc.com/product-detail/Multilayer-Ceramic-Capacitors-MLCC---SMD-SMT_Samsung-Electro-Mechanics-Samsung-Electro-Mechanics-CL10B224KA8NNNC_C21120.html
footprint CAP-0603 (0603 (1608M) Capacitor)
pins: 1, 2

## CL10B332KB8NNNC
designator C?  Capacitance: 3.3nF  (hidden comment: *)
Capacitor, Ceramic (MLCC), 3.3nF, ±10%, 50V, X7R, ±10%, SMD 0603; Manufacturer: Samsung Electro-Mechanics; Manufacturer Part Number: CL10B332KB8NNNC; Package Size: 0603; JLCPCB Basic Part: Yes; JLCPCB Part Number: C1613; Supplier 1: LCSC; Category: Capacitors - MLCC; Supplier Part Number 1: C1613; Tolerance: ±10%; Voltage Rating: 50V; Temperature Coefficient: X7R; RoHS: Yes; ComponentLink1Description: Datasheet; ComponentLink1URL: https://datasheet.lcsc.com/lcsc/1810261513_Samsung-Electro-Mechanics-CL10B332KB8NNNC_C1613.pdf; ComponentLink2Description: JLCPCB Part URL; ComponentLink2URL: https://jlcpcb.com/partdetail/C1613; ComponentLink3Description: LCSC Part URL; ComponentLink3URL: https://lcsc.com/product-detail/Multilayer-Ceramic-Capacitors-MLCC---SMD-SMT_Samsung-Electro-Mechanics-Samsung-Electro-Mechanics-CL10B332KB8NNNC_C1613.html
footprint C0603 (Chip Resistor, 2-Leads, Body 1.65x0.95mm, IPC Low Density)
pins: 1, 2

## CL10B333KB8NNNC
designator C?  Capacitance: 33nF  (hidden comment: *)
Capacitor, Ceramic (MLCC), 33nF, ±10%, 50V, X7R, ±10%, SMD 0603; Manufacturer: Samsung Electro-Mechanics; Manufacturer Part Number: CL10B333KB8NNNC; Package Size: 0603; JLCPCB Basic Part: Yes; JLCPCB Part Number: C21117; Supplier 1: LCSC; Category: Capacitors - MLCC; Supplier Part Number 1: C21117; Tolerance: ±10%; Voltage Rating: 50V; Temperature Coefficient: X7R; RoHS: Yes; ComponentLink1Description: Datasheet; ComponentLink1URL: https://datasheet.lcsc.com/lcsc/1810261514_Samsung-Electro-Mechanics-CL10B333KB8NNNC_C21117.pdf; ComponentLink2Description: JLCPCB Part URL; ComponentLink2URL: https://jlcpcb.com/partdetail/C21117; ComponentLink3Description: LCSC Part URL; ComponentLink3URL: https://lcsc.com/product-detail/Multilayer-Ceramic-Capacitors-MLCC---SMD-SMT_Samsung-Electro-Mechanics-Samsung-Electro-Mechanics-CL10B333KB8NNNC_C21117.html
footprint CAP-0603 (0603 (1608M) Capacitor)
pins: 1, 2

## CL10B473KB8NNNC
designator C?  Capacitance: 47nF  (hidden comment: *)
Capacitor, Ceramic (MLCC), 47nF, ±10%, 50V, X7R, ±10%, SMD 0603; Manufacturer: Samsung Electro-Mechanics; Manufacturer Part Number: CL10B473KB8NNNC; Package Size: 0603; JLCPCB Basic Part: Yes; JLCPCB Part Number: C1622; Supplier 1: LCSC; Category: Capacitors - MLCC; Supplier Part Number 1: C1622; Tolerance: ±10%; Voltage Rating: 50V; Temperature Coefficient: X7R; RoHS: Yes; ComponentLink1Description: Datasheet; ComponentLink1URL: https://datasheet.lcsc.com/lcsc/1810261614_Samsung-Electro-Mechanics-CL10B473KB8NNNC_C1622.pdf; ComponentLink2Description: JLCPCB Part URL; ComponentLink2URL: https://jlcpcb.com/partdetail/C1622; ComponentLink3Description: LCSC Part URL; ComponentLink3URL: https://lcsc.com/product-detail/Multilayer-Ceramic-Capacitors-MLCC---SMD-SMT_Samsung-Electro-Mechanics-Samsung-Electro-Mechanics-CL10B473KB8NNNC_C1622.html
footprint C0603 (Chip Resistor, 2-Leads, Body 1.65x0.95mm, IPC Low Density)
pins: 1, 2

## CL10B474KA8NNNC
designator C?  Capacitance: 470nF  (hidden comment: *)
Capacitor, Ceramic (MLCC), 470nF, ±10%, 25V, X7R, ±10%, SMD 0603; Manufacturer: Samsung Electro-Mechanics; Manufacturer Part Number: CL10B474KA8NNNC; Package Size: 0603; JLCPCB Basic Part: Yes; JLCPCB Part Number: C1623; Supplier 1: LCSC; Category: Capacitors - MLCC; Supplier Part Number 1: C1623; Tolerance: ±10%; Voltage Rating: 25V; Temperature Coefficient: X7R; RoHS: Yes; ComponentLink1Description: Datasheet; ComponentLink1URL: https://datasheet.lcsc.com/lcsc/1810261513_Samsung-Electro-Mechanics-CL10B474KA8NNNC_C1623.pdf; ComponentLink2Description: JLCPCB Part URL; ComponentLink2URL: https://jlcpcb.com/partdetail/C1623; ComponentLink3Description: LCSC Part URL; ComponentLink3URL: https://lcsc.com/product-detail/Multilayer-Ceramic-Capacitors-MLCC---SMD-SMT_Samsung-Electro-Mechanics-Samsung-Electro-Mechanics-CL10B474KA8NNNC_C1623.html
footprint CAP-0603 (0603 (1608M) Capacitor)
pins: 1, 2

## CL10B683KB8NNNC
designator C?  Capacitance: 68nF  (hidden comment: *)
Capacitor, Ceramic (MLCC), 68nF, ±10%, 50V, X7R, ±10%, SMD 0603; Manufacturer: Samsung Electro-Mechanics; Manufacturer Part Number: CL10B683KB8NNNC; Package Size: 0603; JLCPCB Basic Part: Yes; JLCPCB Part Number: C31658; Supplier 1: LCSC; Category: Capacitors - MLCC; Supplier Part Number 1: C31658; Tolerance: ±10%; Voltage Rating: 50V; Temperature Coefficient: X7R; RoHS: Yes; ComponentLink1Description: Datasheet; ComponentLink1URL: https://datasheet.lcsc.com/lcsc/1811072020_Samsung-Electro-Mechanics-CL10B683KB8NNNC_C31658.pdf; ComponentLink2Description: JLCPCB Part URL; ComponentLink2URL: https://jlcpcb.com/partdetail/C31658; ComponentLink3Description: LCSC Part URL; ComponentLink3URL: https://lcsc.com/product-detail/Multilayer-Ceramic-Capacitors-MLCC---SMD-SMT_Samsung-Electro-Mechanics-Samsung-Electro-Mechanics-CL10B683KB8NNNC_C31658.html
footprint CAP-0603 (0603 (1608M) Capacitor)
pins: 1, 2

## CL10B822KB8NNNC
designator C?  Capacitance: 8.2nF  (hidden comment: *)
Capacitor, Ceramic (MLCC), 8.2nF, ±10%, 50V, X7R, ±10%, SMD 0603; Manufacturer: Samsung Electro-Mechanics; Manufacturer Part Number: CL10B822KB8NNNC; Package Size: 0603; JLCPCB Basic Part: Yes; JLCPCB Part Number: C27920; Supplier 1: LCSC; Category: Capacitors - MLCC; Supplier Part Number 1: C27920; Tolerance: ±10%; Voltage Rating: 50V; Temperature Coefficient: X7R; RoHS: Yes; ComponentLink1Description: Datasheet; ComponentLink1URL: https://datasheet.lcsc.com/lcsc/1810262007_Samsung-Electro-Mechanics-CL10B822KB8NNNC_C27920.pdf; ComponentLink2Description: JLCPCB Part URL; ComponentLink2URL: https://jlcpcb.com/partdetail/C27920; ComponentLink3Description: LCSC Part URL; ComponentLink3URL: https://lcsc.com/product-detail/Multilayer-Ceramic-Capacitors-MLCC---SMD-SMT_Samsung-Electro-Mechanics-Samsung-Electro-Mechanics-CL10B822KB8NNNC_C27920.html
footprint CAP-0603 (0603 (1608M) Capacitor)
pins: 1, 2

## CL10C2R7CB8NNNC
designator C?  Capacitance: 2.7pF  (hidden comment: *)
Capacitor, Ceramic (MLCC), 2.7pF, ±0.25pF, 50V, C0G, ±0.25pF, SMD 0603; Manufacturer: Samsung Electro-Mechanics; Manufacturer Part Number: CL10C2R7CB8NNNC; Package Size: 0603; JLCPCB Basic Part: Yes; JLCPCB Part Number: C16149; Supplier 1: LCSC; Category: Capacitors - MLCC; Supplier Part Number 1: C16149; Tolerance: ±0.25pF; Voltage Rating: 50V; Temperature Coefficient: C0G; RoHS: Yes; ComponentLink1Description: Datasheet; ComponentLink1URL: https://datasheet.lcsc.com/lcsc/1810261513_Samsung-Electro-Mechanics-CL10C2R7CB8NNNC_C16149.pdf; ComponentLink2Description: JLCPCB Part URL; ComponentLink2URL: https://jlcpcb.com/partdetail/C16149; ComponentLink3Description: LCSC Part URL; ComponentLink3URL: https://lcsc.com/product-detail/Multilayer-Ceramic-Capacitors-MLCC---SMD-SMT_Samsung-Electro-Mechanics-Samsung-Electro-Mechanics-CL10C2R7CB8NNNC_C16149.html
footprint CAP-0603 (0603 (1608M) Capacitor)
pins: 1, 2

## CL10C100JB8NNNC
designator C?  Capacitance: 10pF  (hidden comment: *)
Capacitor, Ceramic (MLCC), 10pF, ±5%, 50V, C0G, ±5%, SMD 0603; Manufacturer: Samsung Electro-Mechanics; Manufacturer Part Number: CL10C100JB8NNNC; Package Size: 0603; JLCPCB Basic Part: Yes; JLCPCB Part Number: C1634; Supplier 1: LCSC; Category: Capacitors - MLCC; Supplier Part Number 1: C1634; Tolerance: ±5%; Voltage Rating: 50V; Temperature Coefficient: C0G; RoHS: Yes; ComponentLink1Description: Datasheet; ComponentLink1URL: https://datasheet.lcsc.com/lcsc/1810261513_Samsung-Electro-Mechanics-CL10C100JB8NNNC_C1634.pdf; ComponentLink2Description: JLCPCB Part URL; ComponentLink2URL: https://jlcpcb.com/partdetail/C1634; ComponentLink3Description: LCSC Part URL; ComponentLink3URL: https://lcsc.com/product-detail/Multilayer-Ceramic-Capacitors-MLCC---SMD-SMT_Samsung-Electro-Mechanics-Samsung-Electro-Mechanics-CL10C100JB8NNNC_C1634.html
footprint CAP-0603 (0603 (1608M) Capacitor)
pins: 1, 2

## CL10C101JB8NNNC
designator C?  Capacitance: 100pF  (hidden comment: *)
Capacitor, Ceramic (MLCC), 100pF, ±5%, 50V, C0G, ±5%, SMD 0603; Manufacturer: Samsung Electro-Mechanics; Manufacturer Part Number: CL10C101JB8NNNC; Package Size: 0603; JLCPCB Basic Part: Yes; JLCPCB Part Number: C14858; Supplier 1: LCSC; Category: Capacitors - MLCC; Supplier Part Number 1: C14858; Tolerance: ±5%; Voltage Rating: 50V; Temperature Coefficient: C0G; RoHS: Yes; ComponentLink1Description: Datasheet; ComponentLink1URL: https://datasheet.lcsc.com/lcsc/1811151136_Samsung-Electro-Mechanics-CL10C101JB8NNNC_C14858.pdf; ComponentLink2Description: JLCPCB Part URL; ComponentLink2URL: https://jlcpcb.com/partdetail/C14858; ComponentLink3Description: LCSC Part URL; ComponentLink3URL: https://lcsc.com/product-detail/Multilayer-Ceramic-Capacitors-MLCC---SMD-SMT_Samsung-Electro-Mechanics-Samsung-Electro-Mechanics-CL10C101JB8NNNC_C14858.html
footprint CAP-0603 (0603 (1608M) Capacitor)
pins: 1, 2

## CL10C120JB8NNNC
designator C?  Capacitance: 12pF  (hidden comment: *)
Capacitor, Ceramic (MLCC), 12pF, ±5%, 50V, C0G, ±5%, SMD 0603; Manufacturer: Samsung Electro-Mechanics; Manufacturer Part Number: CL10C120JB8NNNC; Package Size: 0603; JLCPCB Basic Part: Yes; JLCPCB Part Number: C38523; Supplier 1: LCSC; Category: Capacitors - MLCC; Supplier Part Number 1: C38523; Tolerance: ±5%; Voltage Rating: 50V; Temperature Coefficient: C0G; RoHS: Yes; ComponentLink1Description: Datasheet; ComponentLink1URL: https://datasheet.lcsc.com/lcsc/1810261515_Samsung-Electro-Mechanics-CL10C120JB8NNNC_C38523.pdf; ComponentLink2Description: JLCPCB Part URL; ComponentLink2URL: https://jlcpcb.com/partdetail/C38523; ComponentLink3Description: LCSC Part URL; ComponentLink3URL: https://lcsc.com/product-detail/Multilayer-Ceramic-Capacitors-MLCC---SMD-SMT_Samsung-Electro-Mechanics-Samsung-Electro-Mechanics-CL10C120JB8NNNC_C38523.html
footprint CAP-0603 (0603 (1608M) Capacitor)
pins: 1, 2

## CL10C150JB8NNNC
designator C?  Capacitance: 15pF  (hidden comment: *)
Capacitor, Ceramic (MLCC), 15pF, ±5%, 50V, C0G, ±5%, SMD 0603; Manufacturer: Samsung Electro-Mechanics; Manufacturer Part Number: CL10C150JB8NNNC; Package Size: 0603; JLCPCB Basic Part: Yes; JLCPCB Part Number: C1644; Supplier 1: LCSC; Category: Capacitors - MLCC; Supplier Part Number 1: C1644; Tolerance: ±5%; Voltage Rating: 50V; Temperature Coefficient: C0G; RoHS: Yes; ComponentLink1Description: Datasheet; ComponentLink1URL: https://datasheet.lcsc.com/lcsc/1810261515_Samsung-Electro-Mechanics-CL10C150JB8NNNC_C1644.pdf; ComponentLink2Description: JLCPCB Part URL; ComponentLink2URL: https://jlcpcb.com/partdetail/C1644; ComponentLink3Description: LCSC Part URL; ComponentLink3URL: https://lcsc.com/product-detail/Multilayer-Ceramic-Capacitors-MLCC---SMD-SMT_Samsung-Electro-Mechanics-Samsung-Electro-Mechanics-CL10C150JB8NNNC_C1644.html
footprint CAP-0603 (0603 (1608M) Capacitor)
pins: 1, 2